# Altium footprint library R_0805.PCBLIB: 1 footprints
Each footprint in its own frame and in the unit in brackets; x right, y up, seen from the top. Pads: shape width x height; smd on the part's side, far side on the other; paste and mask are expansions set on the pad; w line width, h text height; cw(c..) or ccw(c..) is an arc to the next point about the centre after c.
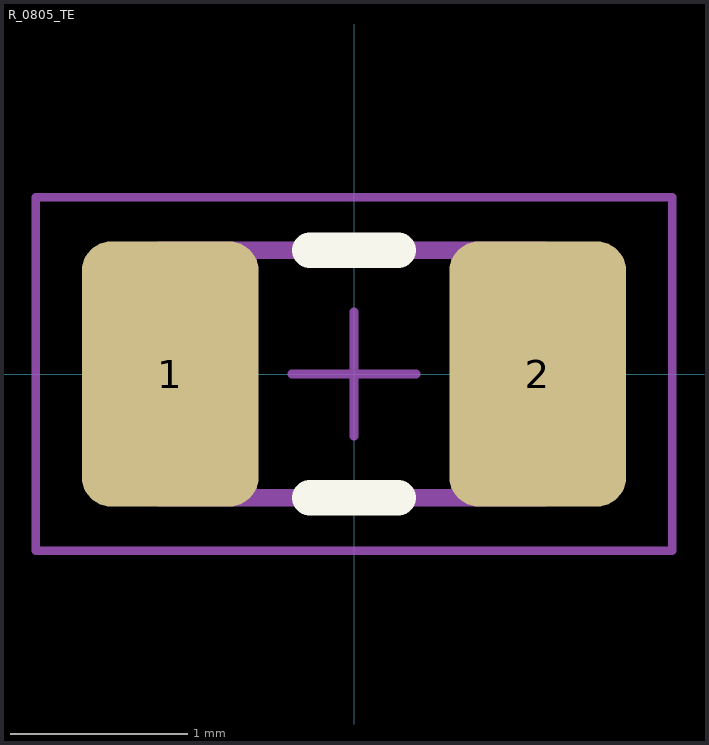
[diagram p0: the footprint, top view; thin cyan lines are the x and y axes]

## R_0805_TE [mm]
height 0.85
pads (2):
  rrect33% 1x1.5 smd: 1(-1.04,0) 2(1.04,0)
Top Overlay:
  lines w0.2: -0.25,-0.7 0.25,-0.7 ; -0.25,0.7 0.25,0.7
Top Assembly:
  lines w0.1: -0.6,-0.7 -0.6,0.7 ; 0.6,-0.7 0.6,0.7 ; -1.1,-0.7 -1.1,0.7 1.075,0.7 1.075,-0.7 -1.1,-0.7
Top Courtyard:
  lines w0.05: -1.8,-1 -1.8,1 1.8,1 1.8,-1 -1.8,-1
Top Designator:
  text ".Designator" at -0.5,1.1 h0.7
Top Component Center:
  lines w0.05: -0.35,0 0.35,0 ; 0,-0.35 0,0.35
3D body "User Library-MF-PSMF020X.step": height 0.48, standoff 0, extent -1,-0.6 1,0.6
3D body "User Library-MF-PSMF020X.step": height 0.83, standoff 0.35, extent -1,-0.6 1,0.6